# Altium footprint library TSSOP20.PcbLib: 1 footprints
Each footprint in its own frame and in the unit in brackets; x right, y up, seen from the top. Pads: shape width x height; smd on the part's side, far side on the other; paste and mask are expansions set on the pad; w line width, h text height; cw(c..) or ccw(c..) is an arc to the next point about the centre after c.
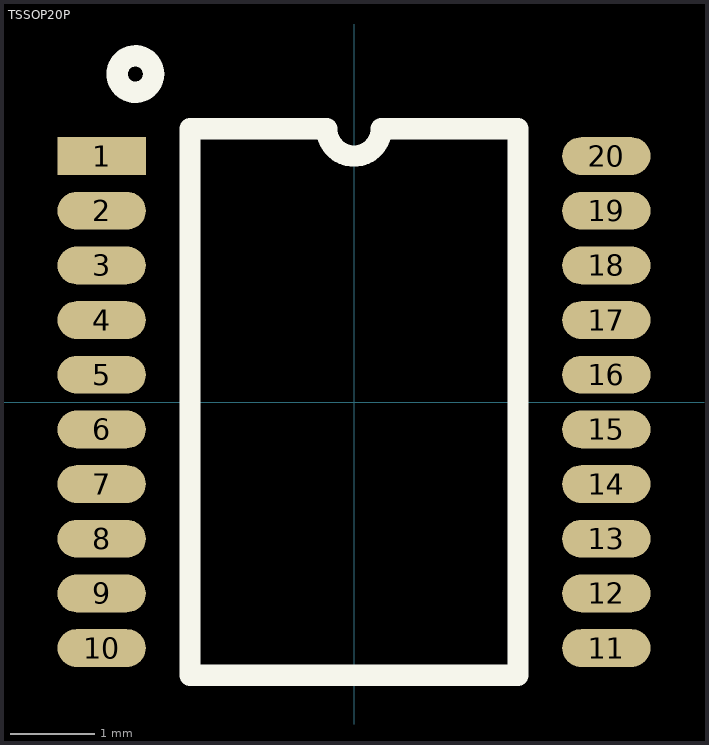
[diagram p0: the footprint, top view; thin cyan lines are the x and y axes]

## TSSOP20P [mm] "TSSOP 20-Pins with thermal pad"
pads (20):
  rect 1.05x0.45 smd: 1(-3,2.925)
  oval 1.05x0.45 smd: 2(-3,2.275) 3(-3,1.625) 4(-3,0.975) 5(-3,0.325) 6(-3,-0.325) 7(-3,-0.975) 8(-3,-1.625) 9(-3,-2.275) 10(-3,-2.925) 11(3,-2.925) 12(3,-2.275) 13(3,-1.625) 14(3,-0.975) 15(3,-0.325) 16(3,0.325) 17(3,0.975) 18(3,1.625) 19(3,2.275) 20(3,2.925)
Top Overlay:
  circle w0.254: c-2.6,3.9 r0.217
  lines w0.254: -1.95,-3.25 -1.95,3.25 -0.325,3.25 ccw(c0,3.25) 0.325,3.25 1.95,3.25 1.95,-3.25 -1.95,-3.25
  text ".Designator" at -0.65,-0.325 h1
Mechanical 1:
  text ".designator" at -1.3,3.575 h1.5
3D body: height 1.2, standoff 0, extent -3.3,-3.3 3.25,3.3